# Altium footprint library RT7258-1.PCBLIB: 1 footprints
Each footprint in its own frame and in the unit in brackets; x right, y up, seen from the top. Pads: shape width x height; smd on the part's side, far side on the other; paste and mask are expansions set on the pad; w line width, h text height; cw(c..) or ccw(c..) is an arc to the next point about the centre after c.
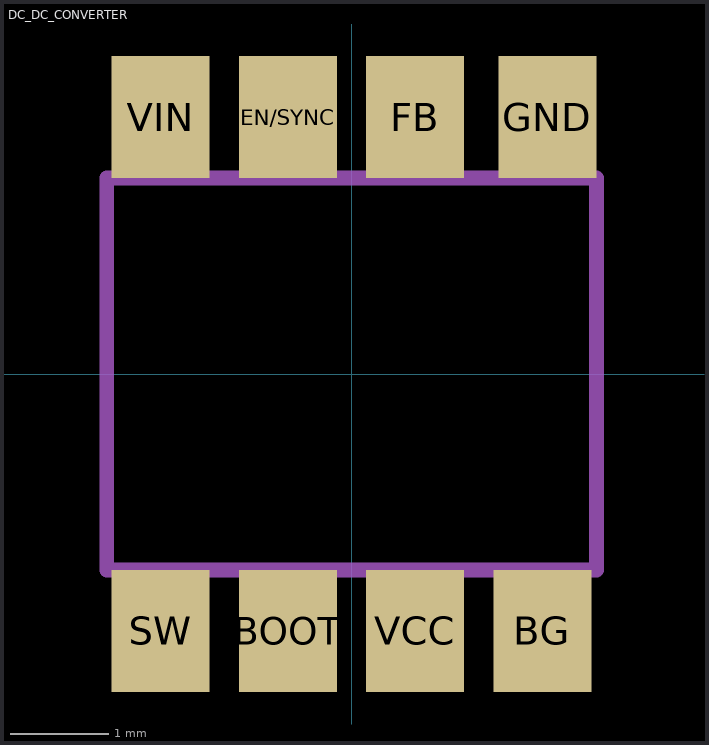
[diagram p0: the footprint, top view; thin cyan lines are the x and y axes]

## DC_DC_CONVERTER [mm]
pads (8):
  rect 1x1.25 smd: BG(1.95,-2.625) BOOT(-0.65,-2.625) EN/SYNC(-0.65,2.625) FB(0.65,2.625) GND(2,2.625) SW(-1.95,-2.625) VCC(0.65,-2.625) VIN(-1.95,2.625)
tDocu:
  lines w0.152: -2.5,-2 -2.5,2 2.5,2 2.5,-2 -2.5,-2
tValues:
  text "RT7258" at -2.5,4 h1.57
tPlace:
  circle w0: c-2.3,-2.9 r0.1